# Altium schematic symbol library EG4S20BG256.SCHLIB: 55 symbols
Pins are listed as number, name and electrical type; pins without a type are passive.

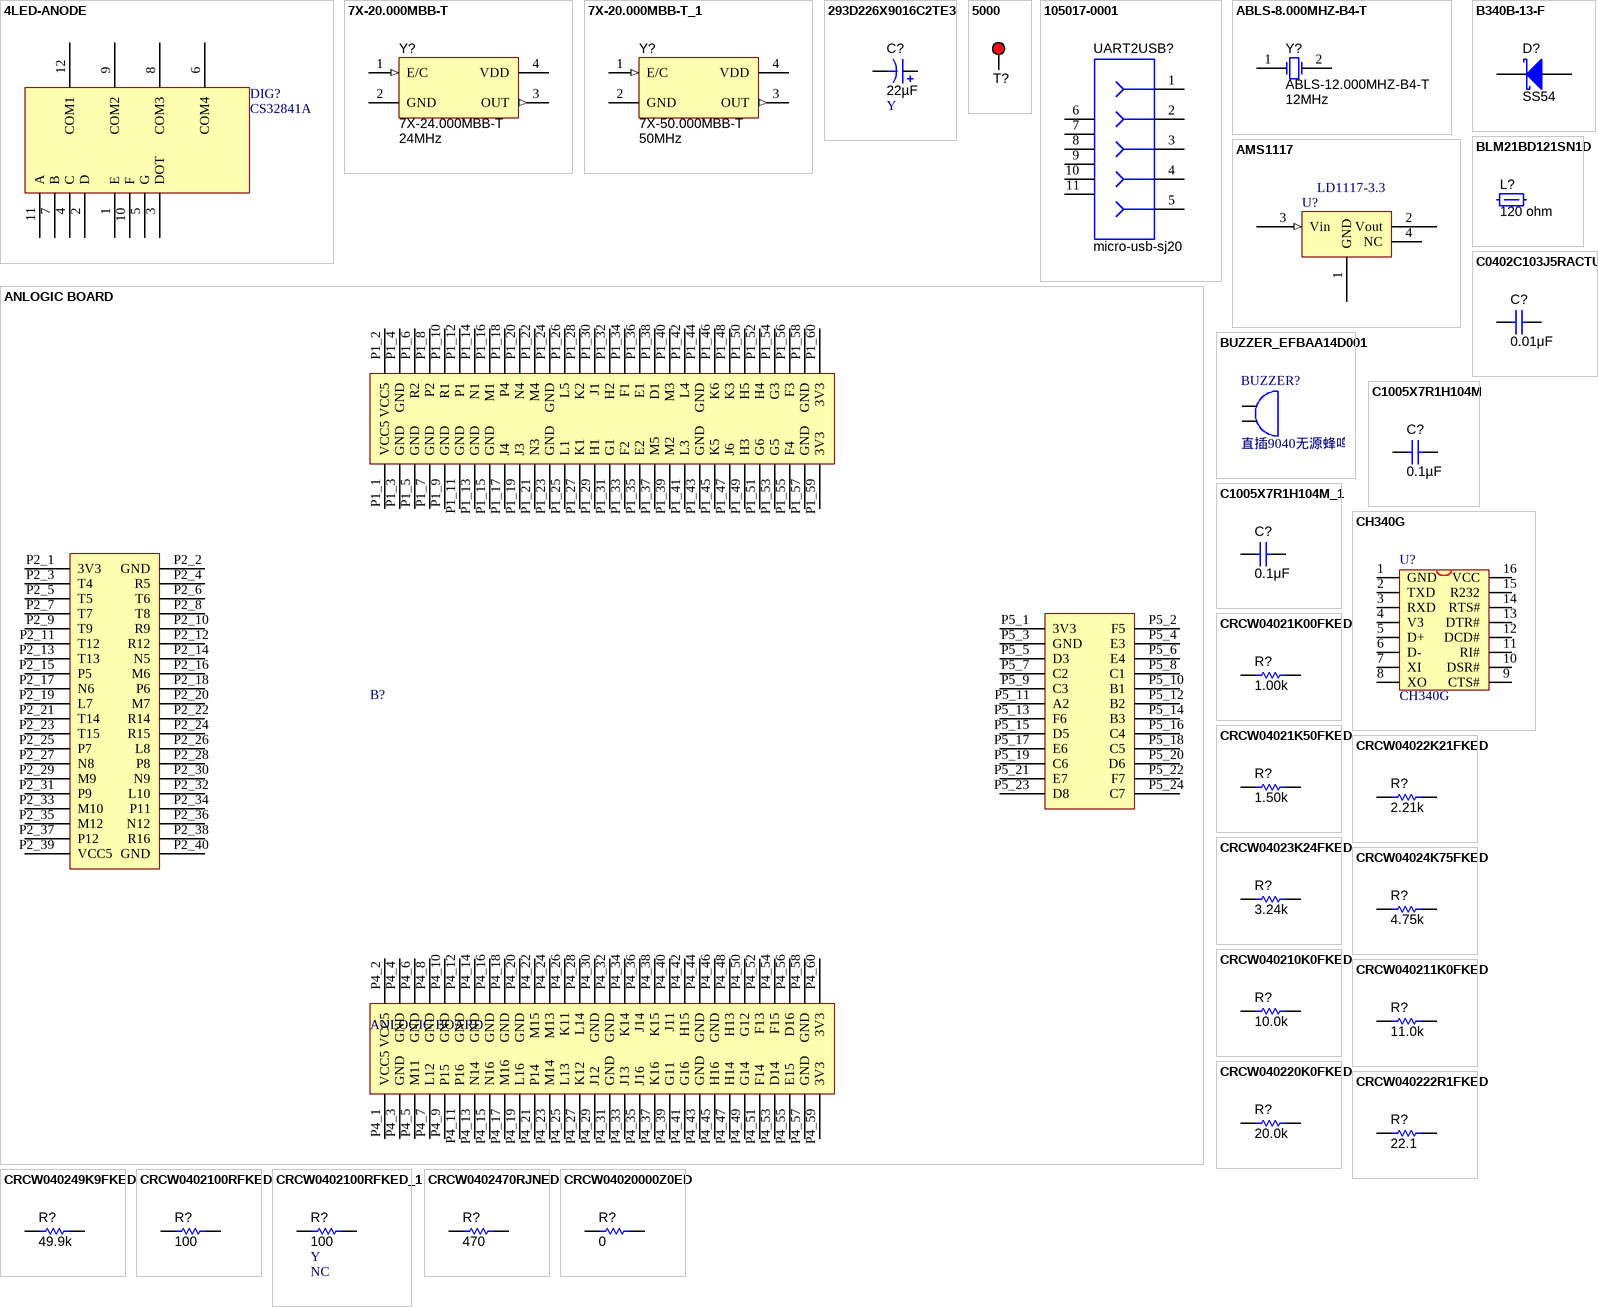
[diagram p0: symbols 4LED-ANODE to CRCW04020000Z0ED]

## 4LED-ANODE
designator DIG?, comment CS32841A
4位共阴数码管，红色
footprint DIP12-500
footprint CS2845AUR (4位数码管)
pins: 1 E, 2 D, 3 DOT, 4 C, 5 G, 6 COM4, 7 B, 8 COM3, 9 COM2, 10 F, 11 A, 12 COM1

## 7X-20.000MBB-T
designator Y?, comment 7X-24.000MBB-T  Frequency: 24MHz
Crystal, 有源晶振，Sealed Locked 24MHz, 15pF, SMD; Manufacturer: TXC Corporation; SymbolCreator: a0799628; CompType: Oscillator; U/M: EA; TaMin_C: -40; TaMax_C: 85; Frequency Stability: ?ppm; SymbolVersion: 2013-06-14; PartNumber: 7X-24.000MBB-T; PackageReference: 3.2x1x2.5 mm; MountType: SMT; RoHS: Y; ComponentLink1Description: Datasheet Link; ComponentLink1URL: http://www.txccrystal.com/images/pdf/7x.pdf; Publisher: Texas Instruments; LatestRevisionDate: 2013-06-18; LatestRevisionNote: Changed publisher; Supplier 1: Digi-Key; Supplier Part Number 1: 887-1217-1-ND; Supplier 2: Mouser; Supplier Part Number 2: 717-7X-20.000MBB-T; Supplier 3: Farnell; Supplier Part Number 3: 1842164
footprint XTAL_7050
footprint XTAL_NX3225SA (NDK NX3225SA recommended land pattern)
pins: 1 E/C (in), 2 GND (power), 3 OUT (out), 4 VDD (power)

## 7X-20.000MBB-T_1
designator Y?, comment 7X-50.000MBB-T  Frequency: 50MHz
Crystal, 有源晶振，Sealed Locked 50MHz, 15pF, SMD; Manufacturer: TXC Corporation; SymbolCreator: a0799628; CompType: Oscillator; U/M: EA; TaMin_C: -40; TaMax_C: 85; Frequency Stability: ?ppm; SymbolVersion: 2013-06-14; PartNumber: 7X-50.000MBB-T; PackageReference: 3.2x1x2.5 mm; MountType: SMT; RoHS: Y; ComponentLink1Description: Datasheet Link; ComponentLink1URL: http://www.txccrystal.com/images/pdf/7x.pdf; Publisher: Texas Instruments; LatestRevisionDate: 2013-06-18; LatestRevisionNote: Changed publisher; Supplier 1: Digi-Key; Supplier Part Number 1: 887-1217-1-ND; Supplier 2: Mouser; Supplier Part Number 2: 717-7X-20.000MBB-T; Supplier 3: Farnell; Supplier Part Number 3: 1842164
footprint XTAL_7050
footprint XTAL_NX3225SA (NDK NX3225SA recommended land pattern)
pins: 1 E/C (in), 2 GND (power), 3 OUT (out), 4 VDD (power)

## 293D226X9016C2TE3
designator C?, comment ValueDisplayed: 22µF  (hidden comment: Y)
CAP, TA, 22 µF, 16 V, +/- 10%, 1.8 ohm, SMD; PartNumber: 293D226X9016C2TE3; Manufacturer: Vishay-Sprague; CompType: Capacitor; Value: 22uF; U/M: EA; Cap_F: 0.000022; Tolerance_%: 10; Value1: 1.8 ohm; VDC_V: 16; Value2: 16V; ESR_ohm: 1.8; IRMS_A: 0.28; TaMin_C: -55; TaMax_C: 125; Cap_Case: C; Polarized: Y; SymbolVersion: 2008-07-09; PackageReference: 6032-28; RoHS: Y; MountType: SMT; Technology: TA; Series: 293D; Publisher: Texas Instruments; LatestRevisionDate: 2015-03-19; LatestRevisionNote: Updated supplier links; ComponentLink1Description: Datasheet link; ComponentLink1URL: http://www.vishay.com/docs/40002/293d.pdf; Supplier 1: Digi-Key; Supplier Part Number 1: 718-1066-1-ND; Supplier 2: Mouser; Supplier Part Number 2: 74-293D226X9016C2TE3; Supplier 3: Farnell; Supplier Part Number 3: 1754187; IGNORE: Y
signal-integrity model Cap
simulation model Cap
footprint 6032-28
pins: 1 +, 2 -

## 5000
designator T?  (value not drawn)
Test Point, TH, Miniature, Red; Manufacturer: Keystone; CompType: Test Point Loop; U/M: EA; SymbolVersion: 2008-04-04; PartNumber: 5000; Value: Red; RoHS: Y; PackageReference: Keystone5000; MountType: TH; ComponentLink1Description: Datasheet Link; ComponentLink1URL: http://www.keyelco.com/pdfs/M55p51.pdf; Publisher: Texas Instruments; LatestRevisionDate: 2012-12-26; LatestRevisionNote: Added parts, moved some to Hardware.IntLib; Supplier 1: Digi-Key; Supplier Part Number 1: 5000K-ND
footprint TP
pins: 1

## 105017-0001
designator UART2USB?, comment micro-usb-sj20
Receptacle, Micro-USB-B, Right Angle, SMD; Manufacturer: Molex; SymbolCreator: a0412235; CompType: Connector; U/M: EA; SymbolVersion: 2012-12-19; PartNumber: micro-usb-sj20; RoHS: Y; PackageReference: Micro USB receptacle; MountType: SMT; ComponentLink1Description: Datasheet Link; ComponentLink1URL: http://www.molex.com/pdm_docs/sd/1050170001_sd.pdf; Publisher: Texas Instruments; LatestRevisionDate: 2012-12-26; LatestRevisionNote: Added parts, moved some to Hardware.IntLib; Supplier 1: Digi-Key; Supplier Part Number 1: WM1399CT-ND; Supplier 2: Mouser; Supplier Part Number 2: 538-105017-0001; Supplier 3: Farnell; Supplier Part Number 3: 1847433
footprint YQMICRO-USB-SJ20 (MICRO-USB-SJ20)
pins: 1, 2, 3, 4, 5, 6, 7, 8, 9, 10, 11

## ABLS-8.000MHZ-B4-T
designator Y?, comment ABLS-12.000MHZ-B4-T  Frequency: 12MHz
Crystal, 12MHz, 18pF, SMD,无源; Manufacturer: Abracon Corportation; SymbolCreator: a0412235; U/M: EA; TaMin_C: 0; TaMax_C: 70; Frequency Stability: ±50ppm; SymbolVersion: 2008-07-09; PartNumber: ABLS-12.000MHZ-B4-T; CompType: Crystal; PackageReference: Crystal, 11.4x4.3x3.8mm; MountType: SMT; RoHS: Y; ComponentLink1Description: Datasheet Link; ComponentLink1URL: http://www.abracon.com/Resonators/abls.pdf; Publisher: Texas Instruments; LatestRevisionDate: 2015-05-05; Supplier 1: Digi-Key; Supplier Part Number 1: 535-10212-1-ND; Supplier 2: Mouser; Supplier Part Number 2: 815-ABLS-8.0M-T
footprint YQ_OSC5032
pins: 1 OSC1, 2 OSC2

## AMS1117
designator U?, comment LD1117-3.3
LDO电源
footprint SOT223-L
pins: 1 GND (power), 2 Vout (power), 3 Vin (in), 4 NC

## ANLOGIC BOARD
designator B?
LatestRevisionDate: 17-Jul-2002; LatestRevisionNote: Re-released for DXP Platform.; Publisher: Altium Limited
footprint ANLOGIC TOP BOARD
footprint ANLOGIC BOTTOM BOARD
pins: P1_1 VCC5, P1_2 VCC5, P1_3 GND, P1_4 GND, P1_5 GND, P1_6 R2, P1_7 GND, P1_8 P2, P1_9 GND, P1_10 R1, P1_11 GND, P1_12 P1, P1_13 GND, P1_14 N1, P1_15 GND, P1_16 M1, P1_17 J4, P1_18 P4, P1_19 J3, P1_20 N4, P1_21 N3, P1_22 M4, P1_23 GND, P1_24 GND, P1_25 L1, P1_26 L5, P1_27 K1, P1_28 K2, P1_29 H1, P1_30 J1, P1_31 G1, P1_32 H2, P1_33 F2, P1_34 F1, P1_35 E2, P1_36 E1, P1_37 M5, P1_38 D1, P1_39 M2, P1_40 M3, P1_41 L3, P1_42 L4, P1_43 GND, P1_44 GND, P1_45 K5, P1_46 K6, P1_47 J6, P1_48 K3, P1_49 H3, P1_50 H5, P1_51 G6, P1_52 H4, P1_53 G5, P1_54 G3, P1_55 F4, P1_56 F3, P1_57 GND, P1_58 GND, P1_59 3V3, P1_60 3V3, P2_1 3V3, P2_2 GND, P2_3 T4, P2_4 R5, P2_5 T5, P2_6 T6, P2_7 T7, P2_8 T8, P2_9 T9, P2_10 R9, P2_11 T12, P2_12 R12, P2_13 T13, P2_14 N5, P2_15 P5, P2_16 M6, P2_17 N6, P2_18 P6, P2_19 L7, P2_20 M7, P2_21 T14, P2_22 R14, P2_23 T15, P2_24 R15, P2_25 P7, P2_26 L8, P2_27 N8, P2_28 P8, P2_29 M9, P2_30 N9, P2_31 P9, P2_32 L10, P2_33 M10, P2_34 P11, P2_35 M12, P2_36 N12, P2_37 P12, P2_38 R16, P2_39 VCC5, P2_40 GND, P4_1 VCC5, P4_2 VCC5, P4_3 GND, P4_4 GND, P4_5 M11, P4_6 GND, P4_7 L12, P4_8 GND, P4_9 P15, P4_10 GND, P4_11 P16, P4_12 GND, P4_13 N14, P4_14 GND, P4_15 N16, P4_16 GND, P4_17 M16, P4_18 GND, P4_19 L16, P4_20 GND, P4_21 P14, P4_22 M15, P4_23 M14, P4_24 M13, P4_25 L13, P4_26 K11, P4_27 K12, P4_28 L14, P4_29 J12, P4_30 GND, P4_31 GND, P4_32 GND, P4_33 J13, P4_34 K14, P4_35 J16, P4_36 J14, P4_37 K16, P4_38 K15, P4_39 G11, P4_40 J11, P4_41 G16, P4_42 H15, P4_43 GND, P4_44 GND, P4_45 H16, P4_46 GND, P4_47 H14, P4_48 H13, P4_49 G14, P4_50 G12, P4_51 F14, P4_52 F13, P4_53 D14, P4_54 F15, P4_55 E15, P4_56 D16, P4_57 GND, P4_58 GND, P4_59 3V3, P4_60 3V3, P5_1 3V3, P5_2 F5, P5_3 GND, P5_4 E3, P5_5 D3, P5_6 E4, P5_7 C2, P5_8 C1, P5_9 C3, P5_10 B1, P5_11 A2, P5_12 B2, P5_13 F6, P5_14 B3, P5_15 D5, P5_16 C4, P5_17 E6, P5_18 C5, P5_19 C6, P5_20 D6, P5_21 E7, P5_22 F7, P5_23 D8, P5_24 C7

## B340B-13-F
designator D?, comment SS54
Diode, Schottky, 40 V, 3A, SMB; Manufacturer: Diodes Inc.; U/M: EA; Vf_V: 0.5; Value: 40V; Value2: 0.5V; Io_A: 3; Vr_V: 40; TJmax_C: 125; RJC_CperW: 25; CompType: Diode; SymbolVersion: 2008-12-08; PartNumber: SS54; PackageReference: SMB; Value1: 3A; MountType: SMT; Type: Schottky; RoHS: Y; Published: 2008-06-26; Publisher: Texas Instruments; LatestRevisionDate: 2015-04-30; ComponentLink1Description: Datasheet link; ComponentLink1URL: http://www.diodes.com/datasheets/ds30924.pdf; Supplier 1: Digi-Key; Supplier Part Number 1: B340B-FDICT-ND; Supplier 2: Mouser; Supplier Part Number 2: 621-B340B-F; Supplier 3: Farnell; Supplier Part Number 3: 1843677
signal-integrity model Diode
simulation model DI_B340B
footprint SMB
pins: 1 K, 2 A

## BLM21BD121SN1D
designator L?, comment value 120 ohm  (hidden comment: GZ2012V121TF)
Ferrite Bead, 120 ohm @ 100 MHz, 0.2 A, 0805; Manufacturer: MuRata; Imax_A: 0.2; DCR_ohm: 0.25; Value1: 0.25 ohm; Value2: 0.2A; ZTyp@100MHz_Ohm: 120; CompType: Ferrite Bead; SymbolVersion: 2009-06-02; PartNumber: GZ2012V121TF; MountType: SMT; PackageReference: 0805; Published: 2014-04-30; Publisher: Texas Instruments; LatestRevisionDate: 2015-05-01; ComponentLink1Description: Datasheet link; ComponentLink1URL: http://search.murata.co.jp/Ceramy/image/img/PDF/ENG/L0110S0100BLM21B.pdf; RoHS: Y; Supplier 1: Digi-Key; Supplier Part Number 1: 490-1044-1-ND; Supplier 2: Mouser; Supplier Part Number 2: 81-BLM21BD121SN1D; Supplier 3: Farnell; Supplier Part Number 3: 1515637
footprint 0805_HV
footprint 0805
footprint 0805M
footprint 0805L
pins: 1, 2

## BUZZER_EFBAA14D001
designator BUZZER?, comment 直插9040无源蜂鸣器
Buzzer, 74 dB min, 25V p-p, 8500pF @ 1kHz，直插9040无源蜂鸣器; Manufacturer: Panasonic; Area: 264,208; Value: {Value}; ComponentHeight: 0.276 inch; PackageReference: 0.550 DIA.; SymbolVersion: 07/31/2009 12:17:27; PartNumber: 直插9040无源蜂鸣器; ComponentLink1Description: AEO Datasheet Link
footprint BUZZER_9*9_4MM
pins: 1, 2

## C0402C103J5RACTU
designator C?  ValueDisplayed: 0.01μF  (hidden comment: C0402C103J5RACTU)
CAP, CERM, 0.01 μF, 50 V, +/- 5%, X7R, 0402; Manufacturer: Kemet; Polarized: N; CompType: Capacitor; Value: 0.01uF; U/M: EA; Cap_F: 0.00000001; Tolerance_%: 5; Value1: Unknown; VDC_V: 50; Value2: 50V; TaMin_C: -55; TaMax_C: 125; Cap_Case: 0402; SymbolVersion: 2008-07-09; PartNumber: C0402C103J5RACTU; PackageReference: 0402; RoHS: Y; MountType: SMT; Technology: Ceramic; TempCo: X7R; Published: 2008-06-19; Publisher: Texas Instruments; LatestRevisionDate: 2015-05-02; ComponentLink1Description: Datasheet link; ComponentLink1URL: http://www.kemet.com/Lists/ProductCatalog/Attachments/53/KEM_C1002_X7R_SMD.pdf; Supplier 1: Digi-Key; Supplier Part Number 1: 399-7758-1-ND; Supplier 2: Mouser; Supplier Part Number 2: 80-C0402C103J5R; Supplier 3: Farnell; Supplier Part Number 3: 2413922
signal-integrity model Cap
simulation model Cap
footprint 0402
footprint 0402M
footprint 0402L
footprint 0402S
pins: 1, 2

## C1005X7R1H104M
designator C?  ValueDisplayed: 0.1µF  (hidden comment: C1005X7R1H104M)
CAP, CERM, 0.1 µF, 50 V, +/- 20%, X7R, 0402; Manufacturer: TDK; Polarized: N; CompType: Capacitor; Value: 0.1uF; U/M: EA; Cap_F: 0.0000001; Tolerance_%: 20; Value1: Unknown; VDC_V: 50; Value2: 50V; TaMin_C: -55; TaMax_C: 125; Cap_Case: 0402; SymbolVersion: 2008-07-09; PartNumber: C1005X7R1H104M; PackageReference: 0402; RoHS: Y; MountType: SMT; Technology: Ceramic; TempCo: X7R; Published: 2008-06-19; Publisher: Texas Instruments; LatestRevisionDate: 2015-05-02; ComponentLink1Description: Datasheet link; Supplier 1: Digi-Key; Supplier Part Number 1: 445-5933-1-ND; Supplier 2: Farnell; Supplier Part Number 2: 1907278
signal-integrity model Cap
simulation model Cap
footprint 0402
footprint 0402M
footprint 0402L
footprint 0402S
pins: 1, 2

## C1005X7R1H104M_1
designator C?, comment ValueDisplayed: 0.1μF  (hidden comment: C1005X7R1H104M)
CAP, CERM, 0.1 μF, 50 V, +/- 20%, X7R, 0402; Manufacturer: TDK; Polarized: N; CompType: Capacitor; Value: 0.1uF; U/M: EA; Cap_F: 0.0000001; Tolerance_%: 20; Value1: Unknown; VDC_V: 50; Value2: 50V; TaMin_C: -55; TaMax_C: 125; Cap_Case: 0402; SymbolVersion: 2008-07-09; PartNumber: C1005X7R1H104M; PackageReference: 0402; RoHS: Y; MountType: SMT; Technology: Ceramic; TempCo: X7R; Published: 2008-06-19; Publisher: Texas Instruments; LatestRevisionDate: 2015-05-02; ComponentLink1Description: Datasheet link; Supplier 1: Digi-Key; Supplier Part Number 1: 445-5933-1-ND; Supplier 2: Farnell; Supplier Part Number 2: 1907278
signal-integrity model Cap
simulation model Cap
footprint 0402
footprint 0402M
footprint 0402L
footprint 0402S
pins: 1, 2

## CH340G
designator U?
USB2UART
footprint SOP16M (Small Outline; 16 Leads; Body Width 3.9 mm; Pitch 1.27 mm)
pins: 1 GND, 2 TXD, 3 RXD, 4 V3, 5 D+, 6 D-, 7 XI, 8 XO, 9 CTS#, 10 DSR#, 11 RI#, 12 DCD#, 13 DTR#, 14 RTS#, 15 R232, 16 VCC

## CRCW04021K00FKED
designator R?  ValueDisplayed: 1.00k  (hidden comment: CRCW04021K00FKED)
RES, 1.00 k, 1%, 0.063 W, 0402; Manufacturer: Vishay-Dale; CompType: Resistor; Value: 1.00k; Res_ohm: 1000; Value_Code: 1k00; Tolerance_%: 1; Power_W: 0.063; Value2: 0.063W; VDC_V: 50; TempCo: 100 ppm/C; EIA_Code: E96; U/M: EA; SymbolVersion: 2009-05-29; PartNumber: CRCW04021K00FKED; PackageReference: 0402; RoHS: Y; Value1: 1%; MountType: SMT; Technology: Thick Film; Published: 2008-06-26; Publisher: Texas Instruments; LatestRevisionDate: 2015-05-01; ComponentLink1Description: Datasheet link; ComponentLink1URL: http://www.vishay.com/docs/20035/dcrcwe3.pdf; Supplier 1: Digi-Key; Supplier Part Number 1: 541-1.00KLCT-ND; Supplier 2: Mouser; Supplier Part Number 2: 71-CRCW0402-1.0K-E3; Supplier 3: Farnell; Supplier Part Number 3: 1469662
signal-integrity model Resistor
simulation model Resistor
footprint 0402
footprint 0402M
footprint 0402L
footprint 0402S
pins: 1, 2

## CRCW04021K50FKED
designator R?  ValueDisplayed: 1.50k  (hidden comment: CRCW04021K50FKED)
RES, 1.50 k, 1%, 0.063 W, 0402; Manufacturer: Vishay-Dale; CompType: Resistor; Value: 1.50k; Res_ohm: 1500; Value_Code: 1k50; Tolerance_%: 1; Power_W: 0.063; Value2: 0.063W; VDC_V: 50; TempCo: 100 ppm/C; EIA_Code: E96; U/M: EA; SymbolVersion: 2009-05-29; PartNumber: CRCW04021K50FKED; PackageReference: 0402; RoHS: Y; Value1: 1%; MountType: SMT; Technology: Thick Film; Published: 2008-06-26; Publisher: Texas Instruments; LatestRevisionDate: 2015-05-01; ComponentLink1Description: Datasheet link; ComponentLink1URL: http://www.vishay.com/docs/20035/dcrcwe3.pdf; Supplier 1: Digi-Key; Supplier Part Number 1: 541-1.50KLCT-ND; Supplier 2: Mouser; Supplier Part Number 2: 71-CRCW0402-1.5K-E3; Supplier 3: Farnell; Supplier Part Number 3: 1653201
signal-integrity model Resistor
simulation model Resistor
footprint 0402
footprint 0402M
footprint 0402L
footprint 0402S
pins: 1, 2

## CRCW04022K21FKED
designator R?  ValueDisplayed: 2.21k  (hidden comment: CRCW04022K21FKED)
RES, 2.21 k, 1%, 0.063 W, 0402; Manufacturer: Vishay-Dale; CompType: Resistor; Value: 2.21k; Res_ohm: 2210; Value_Code: 2k21; Tolerance_%: 1; Power_W: 0.063; Value2: 0.063W; VDC_V: 50; TempCo: 100 ppm/C; EIA_Code: E96; U/M: EA; SymbolVersion: 2009-05-29; PartNumber: CRCW04022K21FKED; PackageReference: 0402; RoHS: Y; Value1: 1%; MountType: SMT; Technology: Thick Film; Published: 2008-06-26; Publisher: Texas Instruments; LatestRevisionDate: 2015-05-01; ComponentLink1Description: Datasheet link; ComponentLink1URL: http://www.vishay.com/docs/20035/dcrcwe3.pdf; Supplier 1: Digi-Key; Supplier Part Number 1: 541-2.21KLCT-ND; Supplier 2: Mouser; Supplier Part Number 2: 71-CRCW0402-2.21K-E3; Supplier 3: Farnell; Supplier Part Number 3: 1469689
signal-integrity model Resistor
simulation model Resistor
footprint 0402
footprint 0402M
footprint 0402L
footprint 0402S
pins: 1, 2

## CRCW04023K24FKED
designator R?  ValueDisplayed: 3.24k  (hidden comment: CRCW04023K24FKED)
RES, 3.24 k, 1%, 0.063 W, 0402; Manufacturer: Vishay-Dale; CompType: Resistor; Value: 3.24k; Res_ohm: 3240; Value_Code: 3k24; Tolerance_%: 1; Power_W: 0.063; Value2: 0.063W; VDC_V: 50; TempCo: 100 ppm/C; EIA_Code: E96; U/M: EA; SymbolVersion: 2009-05-29; PartNumber: CRCW04023K24FKED; PackageReference: 0402; RoHS: Y; Value1: 1%; MountType: SMT; Technology: Thick Film; Published: 2008-06-26; Publisher: Texas Instruments; LatestRevisionDate: 2015-05-01; ComponentLink1Description: Datasheet link; ComponentLink1URL: http://www.vishay.com/docs/20035/dcrcwe3.pdf; Supplier 1: Digi-Key; Supplier Part Number 1: 541-3.24KLCT-ND; Supplier 2: Mouser; Supplier Part Number 2: 71-CRCW0402-3.24K-E3; Supplier 3: Farnell; Supplier Part Number 3: 1151130
signal-integrity model Resistor
simulation model Resistor
footprint 0402
footprint 0402M
footprint 0402L
footprint 0402S
pins: 1, 2

## CRCW04024K75FKED
designator R?  ValueDisplayed: 4.75k  (hidden comment: CRCW04024K75FKED)
RES, 4.75 k, 1%, 0.063 W, 0402; Manufacturer: Vishay-Dale; CompType: Resistor; Value: 4.75k; Res_ohm: 4750; Value_Code: 4k75; Tolerance_%: 1; Power_W: 0.063; Value2: 0.063W; VDC_V: 50; TempCo: 100 ppm/C; EIA_Code: E96; U/M: EA; SymbolVersion: 2009-05-29; PartNumber: CRCW04024K75FKED; PackageReference: 0402; RoHS: Y; Value1: 1%; MountType: SMT; Technology: Thick Film; Published: 2008-06-26; Publisher: Texas Instruments; LatestRevisionDate: 2015-05-01; ComponentLink1Description: Datasheet link; ComponentLink1URL: http://www.vishay.com/docs/20035/dcrcwe3.pdf; Supplier 1: Digi-Key; Supplier Part Number 1: 541-4.75KLCT-ND; Supplier 2: Mouser; Supplier Part Number 2: 71-CRCW0402-4.75K-E3; Supplier 3: Farnell; Supplier Part Number 3: 1469713
signal-integrity model Resistor
simulation model Resistor
footprint 0402
footprint 0402M
footprint 0402L
footprint 0402S
pins: 1, 2

## CRCW040210K0FKED
designator R?  ValueDisplayed: 10.0k  (hidden comment: CRCW040210K0FKED)
RES, 10.0 k, 1%, 0.063 W, 0402; Manufacturer: Vishay-Dale; CompType: Resistor; Value: 10.0k; Res_ohm: 10000; Value_Code: 10k0; Tolerance_%: 1; Power_W: 0.063; Value2: 0.063W; VDC_V: 50; TempCo: 100 ppm/C; EIA_Code: E96; U/M: EA; SymbolVersion: 2009-05-29; PartNumber: CRCW040210K0FKED; PackageReference: 0402; RoHS: Y; Value1: 1%; MountType: SMT; Technology: Thick Film; Published: 2008-06-26; Publisher: Texas Instruments; LatestRevisionDate: 2015-05-01; ComponentLink1Description: Datasheet link; ComponentLink1URL: http://www.vishay.com/docs/20035/dcrcwe3.pdf; Supplier 1: Digi-Key; Supplier Part Number 1: 541-10.0KLCT-ND; Supplier 2: Mouser; Supplier Part Number 2: 71-CRCW0402-10K-E3; Supplier 3: Farnell; Supplier Part Number 3: 1469669
signal-integrity model Resistor
simulation model Resistor
footprint 0402
footprint 0402M
footprint 0402L
footprint 0402S
pins: 1, 2

## CRCW040211K0FKED
designator R?  ValueDisplayed: 11.0k  (hidden comment: CRCW040211K0FKED)
RES, 11.0 k, 1%, 0.063 W, 0402; Manufacturer: Vishay-Dale; CompType: Resistor; Value: 11.0k; Res_ohm: 11000; Value_Code: 11k0; Tolerance_%: 1; Power_W: 0.063; Value2: 0.063W; VDC_V: 50; TempCo: 100 ppm/C; EIA_Code: E96; U/M: EA; SymbolVersion: 2009-05-29; PartNumber: CRCW040211K0FKED; PackageReference: 0402; RoHS: Y; Value1: 1%; MountType: SMT; Technology: Thick Film; Published: 2008-06-26; Publisher: Texas Instruments; LatestRevisionDate: 2015-05-01; ComponentLink1Description: Datasheet link; ComponentLink1URL: http://www.vishay.com/docs/20035/dcrcwe3.pdf; Supplier 1: Digi-Key; Supplier Part Number 1: 541-11.0KLCT-ND; Supplier 2: Mouser; Supplier Part Number 2: 71-CRCW0402-11K-E3; Supplier 3: Farnell; Supplier Part Number 3: 1469673
signal-integrity model Resistor
simulation model Resistor
footprint 0402
footprint 0402M
footprint 0402L
footprint 0402S
pins: 1, 2

## CRCW040220K0FKED
designator R?  ValueDisplayed: 20.0k  (hidden comment: CRCW040220K0FKED)
RES, 20.0 k, 1%, 0.063 W, 0402; Manufacturer: Vishay-Dale; CompType: Resistor; Value: 20.0k; Res_ohm: 20000; Value_Code: 20k0; Tolerance_%: 1; Power_W: 0.063; Value2: 0.063W; VDC_V: 50; TempCo: 100 ppm/C; EIA_Code: E96; U/M: EA; SymbolVersion: 2009-05-29; PartNumber: CRCW040220K0FKED; PackageReference: 0402; RoHS: Y; Value1: 1%; MountType: SMT; Technology: Thick Film; Published: 2008-06-26; Publisher: Texas Instruments; LatestRevisionDate: 2015-05-01; ComponentLink1Description: Datasheet link; ComponentLink1URL: http://www.vishay.com/docs/20035/dcrcwe3.pdf; Supplier 1: Digi-Key; Supplier Part Number 1: 541-20.0KLCT-ND; Supplier 2: Mouser; Supplier Part Number 2: 71-CRCW0402-20K-E3; Supplier 3: Farnell; Supplier Part Number 3: 1469693
signal-integrity model Resistor
simulation model Resistor
footprint 0402
footprint 0402M
footprint 0402L
footprint 0402S
pins: 1, 2

## CRCW040222R1FKED
designator R?  ValueDisplayed: 22.1  (hidden comment: CRCW040222R1FKED)
RES, 22.1, 1%, 0.063 W, 0402; Manufacturer: Vishay-Dale; CompType: Resistor; Value: 22.1; Value_Code: 22R1; Tolerance_%: 1; Power_W: 0.063; Value2: 0.063W; VDC_V: 50; TempCo: 100 ppm/C; EIA_Code: E96; U/M: EA; SymbolVersion: 2009-05-29; PartNumber: CRCW040222R1FKED; PackageReference: 0402; RoHS: Y; Res_ohm: 22.1; Value1: 1%; MountType: SMT; Technology: Thick Film; Published: 2008-06-26; Publisher: Texas Instruments; LatestRevisionDate: 2015-05-01; ComponentLink1Description: Datasheet link; ComponentLink1URL: http://www.vishay.com/docs/20035/dcrcwe3.pdf; Supplier 1: Digi-Key; Supplier Part Number 1: 541-22.1LCT-ND; Supplier 2: Mouser; Supplier Part Number 2: 71-CRCW0402-22.1-E3; Supplier 3: Farnell; Supplier Part Number 3: 1469698
signal-integrity model Resistor
simulation model Resistor
footprint 0402
footprint 0402M
footprint 0402L
footprint 0402S
pins: 1, 2

## CRCW040249K9FKED
designator R?  ValueDisplayed: 49.9k  (hidden comment: CRCW040249K9FKED)
RES, 49.9 k, 1%, 0.063 W, 0402; Manufacturer: Vishay-Dale; CompType: Resistor; Value: 49.9k; Res_ohm: 49900; Value_Code: 49k9; Tolerance_%: 1; Power_W: 0.063; Value2: 0.063W; VDC_V: 50; TempCo: 100 ppm/C; EIA_Code: E96; U/M: EA; SymbolVersion: 2009-05-29; PartNumber: CRCW040249K9FKED; PackageReference: 0402; RoHS: Y; Value1: 1%; MountType: SMT; Technology: Thick Film; Published: 2008-06-26; Publisher: Texas Instruments; LatestRevisionDate: 2015-05-01; ComponentLink1Description: Datasheet link; ComponentLink1URL: http://www.vishay.com/docs/20035/dcrcwe3.pdf; Supplier 1: Digi-Key; Supplier Part Number 1: 541-49.9KLCT-ND; Supplier 2: Mouser; Supplier Part Number 2: 71-CRCW0402-49.9K-E3; Supplier 3: Farnell; Supplier Part Number 3: 1469720
signal-integrity model Resistor
simulation model Resistor
footprint 0402
footprint 0402M
footprint 0402L
footprint 0402S
pins: 1, 2

## CRCW0402100RFKED
designator R?  ValueDisplayed: 100  (hidden comment: CRCW0402100RFKED)
RES, 100, 1%, 0.063 W, 0402; Manufacturer: Vishay-Dale; CompType: Resistor; Value: 100; Value_Code: 100R; Tolerance_%: 1; Power_W: 0.063; Value2: 0.063W; VDC_V: 50; TempCo: 100 ppm/C; EIA_Code: E96; U/M: EA; SymbolVersion: 2009-05-29; PartNumber: CRCW0402100RFKED; PackageReference: 0402; RoHS: Y; Res_ohm: 100; Value1: 1%; MountType: SMT; Technology: Thick Film; Published: 2008-06-26; Publisher: Texas Instruments; LatestRevisionDate: 2015-05-01; ComponentLink1Description: Datasheet link; ComponentLink1URL: http://www.vishay.com/docs/20035/dcrcwe3.pdf; Supplier 1: Digi-Key; Supplier Part Number 1: 541-100LCT-ND; Supplier 2: Mouser; Supplier Part Number 2: 71-CRCW0402-100-E3; Supplier 3: Farnell; Supplier Part Number 3: 1469672
signal-integrity model Resistor
simulation model Resistor
footprint 0402 (0402 from SM-752 data)
footprint 0402M
footprint 0402L
footprint 0402S
pins: 1, 2

## CRCW0402100RFKED_1
designator R?, comment ValueDisplayed: 100  Parameter 1: NC  (hidden comment: Y)
RES, 100, 1%, 0.063 W, 0402; PartNumber: CRCW0402100RFKED; Manufacturer: Vishay-Dale; CompType: Resistor; Value: 100; Value_Code: 100R; Tolerance_%: 1; Power_W: 0.063; Value2: 0.063W; VDC_V: 50; TempCo: 100 ppm/C; EIA_Code: E96; U/M: EA; SymbolVersion: 2009-05-29; PackageReference: 0402; RoHS: Y; Res_ohm: 100; Value1: 1%; MountType: SMT; Technology: Thick Film; Published: 2008-06-26; Publisher: Texas Instruments; LatestRevisionDate: 2015-05-01; ComponentLink1Description: Datasheet link; ComponentLink1URL: http://www.vishay.com/docs/20035/dcrcwe3.pdf; Supplier 1: Digi-Key; Supplier Part Number 1: 541-100LCT-ND; Supplier 2: Mouser; Supplier Part Number 2: 71-CRCW0402-100-E3; Supplier 3: Farnell; Supplier Part Number 3: 1469672; IGNORE: Y
signal-integrity model Resistor
simulation model Resistor
footprint 0402 (0402 from SM-752 data)
footprint 0402M
footprint 0402L
footprint 0402S
pins: 1, 2

## CRCW0402470RJNED
designator R?  ValueDisplayed: 470  (hidden comment: CRCW0402470RJNED)
RES, 470, 5%, 0.063 W, 0402; Manufacturer: Vishay-Dale; CompType: Resistor; Value: 470; Value_Code: 470R; Tolerance_%: 5; Power_W: 0.063; Value2: 0.063W; VDC_V: 50; TempCo: 200 ppm/C; EIA_Code: E24; U/M: EA; SymbolVersion: 2009-05-29; PartNumber: CRCW0402470RJNED; PackageReference: 0402; RoHS: Y; Res_ohm: 470; Value1: 5%; MountType: SMT; Technology: Thick Film; Published: 2008-06-26; Publisher: Texas Instruments; LatestRevisionDate: 2015-05-01; ComponentLink1Description: Datasheet link; ComponentLink1URL: http://www.vishay.com/docs/20035/dcrcwe3.pdf; Supplier 1: Digi-Key; Supplier Part Number 1: 541-470JCT-ND; Supplier 2: Mouser; Supplier Part Number 2: 71-CRCW0402J-470-E3; Supplier 3: Farnell; Supplier Part Number 3: 1537425
signal-integrity model Resistor
simulation model Resistor
footprint 0402
footprint 0402M
footprint 0402L
footprint 0402S
pins: 1, 2

## CRCW04020000Z0ED
designator R?  ValueDisplayed: 0  (hidden comment: CRCW04020000Z0ED)
RES, 0, 5%, 0.063 W, 0402; Manufacturer: Vishay-Dale; CompType: Resistor; Value: 0; Value_Code: 0000; Tolerance_%: 5; Power_W: 0.063; Value2: 0.063W; VDC_V: 50; TempCo: 200 ppm/C; EIA_Code: E24; U/M: EA; SymbolVersion: 2009-05-29; PartNumber: CRCW04020000Z0ED; PackageReference: 0402; RoHS: Y; Res_ohm: 0; Value1: 5%; MountType: SMT; Technology: Thick Film; Published: 2008-06-26; Publisher: Texas Instruments; LatestRevisionDate: 2015-05-01; ComponentLink1Description: Datasheet link; ComponentLink1URL: http://www.vishay.com/docs/20035/dcrcwe3.pdf; Supplier 1: Digi-Key; Supplier Part Number 1: 541-0.0JCT-ND; Supplier 2: Mouser; Supplier Part Number 2: 71-CRCW0402-0-E3; Supplier 3: Farnell; Supplier Part Number 3: 1469661
signal-integrity model Resistor
simulation model Resistor
footprint 0402
footprint 0402M
footprint 0402L
footprint 0402S
pins: 1, 2

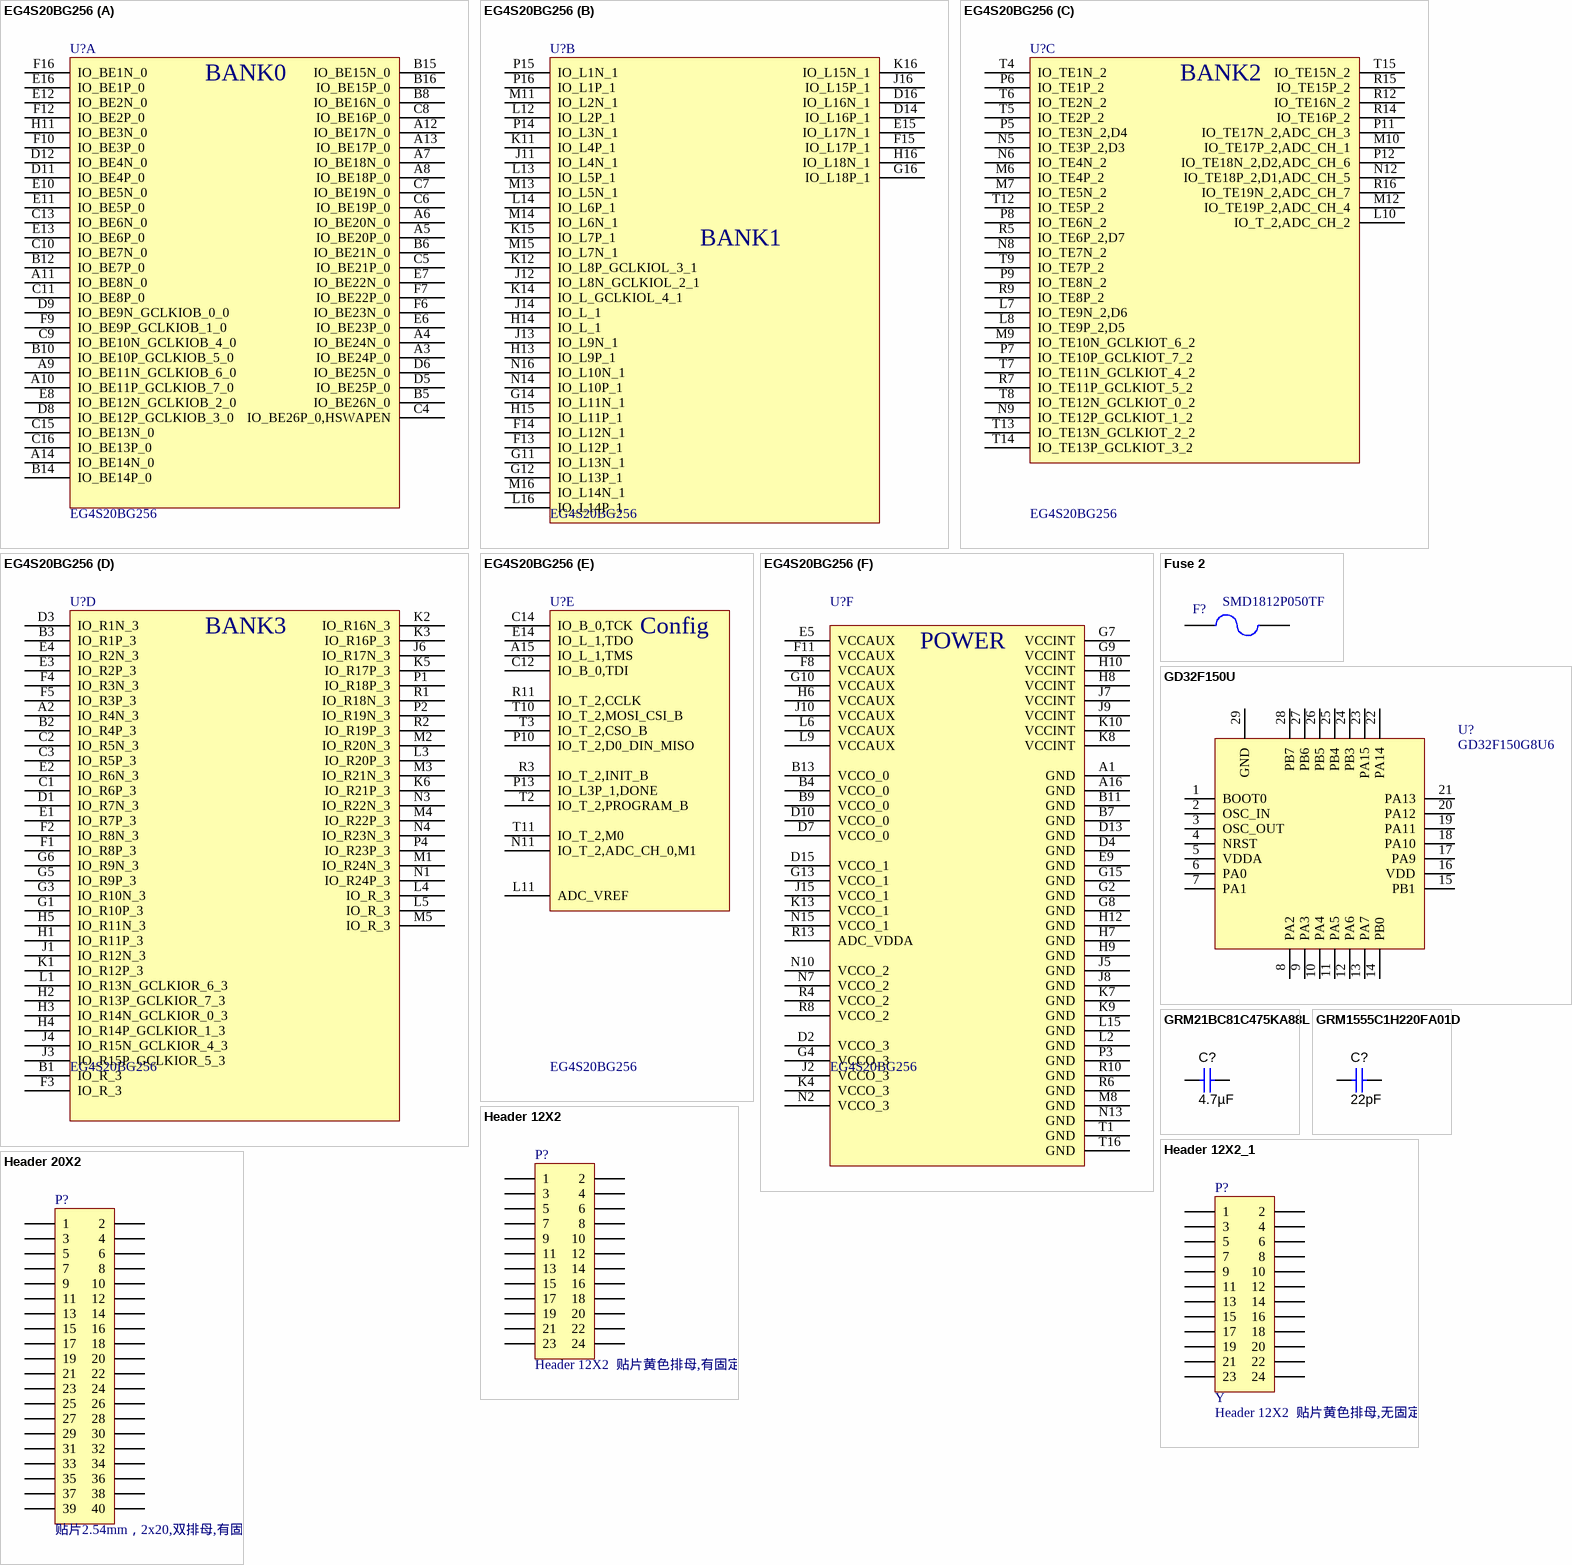
[diagram p1: symbols EG4S20BG256 to Header 20X2]

## EG4S20BG256
designator U?
footprint FBGA256 (Footprint not found)
part A pins: A3 IO_BE24P_0, A4 IO_BE24N_0, A5 IO_BE20P_0, A6 IO_BE20N_0, A7 IO_BE18N_0, A8 IO_BE18P_0, A9 IO_BE11N_GCLKIOB_6_0, A10 IO_BE11P_GCLKIOB_7_0, A11 IO_BE8N_0, A12 IO_BE17N_0, A13 IO_BE17P_0, A14 IO_BE14N_0, B5 IO_BE26N_0, B6 IO_BE21N_0, B8 IO_BE16N_0, B10 IO_BE10P_GCLKIOB_5_0, B12 IO_BE7P_0, B14 IO_BE14P_0, B15 IO_BE15N_0, B16 IO_BE15P_0, C4 IO_BE26P_0,HSWAPEN, C5 IO_BE21P_0, C6 IO_BE19P_0, C7 IO_BE19N_0, C8 IO_BE16P_0, C9 IO_BE10N_GCLKIOB_4_0, C10 IO_BE7N_0, C11 IO_BE8P_0, C13 IO_BE6N_0, C15 IO_BE13N_0, C16 IO_BE13P_0, D5 IO_BE25P_0, D6 IO_BE25N_0, D8 IO_BE12P_GCLKIOB_3_0, D9 IO_BE9N_GCLKIOB_0_0, D11 IO_BE4P_0, D12 IO_BE4N_0, E6 IO_BE23P_0, E7 IO_BE22N_0, E8 IO_BE12N_GCLKIOB_2_0, E10 IO_BE5N_0, E11 IO_BE5P_0, E12 IO_BE2N_0, E13 IO_BE6P_0, E16 IO_BE1P_0, F6 IO_BE23N_0, F7 IO_BE22P_0, F9 IO_BE9P_GCLKIOB_1_0, F10 IO_BE3P_0, F12 IO_BE2P_0, F16 IO_BE1N_0, H11 IO_BE3N_0
part B pins: D14 IO_L16P_1, D16 IO_L16N_1, E15 IO_L17N_1, F13 IO_L12P_1, F14 IO_L12N_1, F15 IO_L17P_1, G11 IO_L13N_1, G12 IO_L13P_1, G14 IO_L11N_1, G16 IO_L18P_1, H13 IO_L9P_1, H14 IO_L_1, H15 IO_L11P_1, H16 IO_L18N_1, J11 IO_L4N_1, J12 IO_L8N_GCLKIOL_2_1, J13 IO_L9N_1, J14 IO_L_1, J16 IO_L15P_1, K11 IO_L4P_1, K12 IO_L8P_GCLKIOL_3_1, K14 IO_L_GCLKIOL_4_1, K15 IO_L7P_1, K16 IO_L15N_1, L12 IO_L2P_1, L13 IO_L5P_1, L14 IO_L6P_1, L16 IO_L14P_1, M11 IO_L2N_1, M13 IO_L5N_1, M14 IO_L6N_1, M15 IO_L7N_1, M16 IO_L14N_1, N14 IO_L10P_1, N16 IO_L10N_1, P14 IO_L3N_1, P15 IO_L1N_1, P16 IO_L1P_1
part C pins: L7 IO_TE9N_2,D6, L8 IO_TE9P_2,D5, L10 IO_T_2,ADC_CH_2, M6 IO_TE4P_2, M7 IO_TE5N_2, M9 IO_TE10N_GCLKIOT_6_2, M10 IO_TE17P_2,ADC_CH_1, M12 IO_TE19P_2,ADC_CH_4, N5 IO_TE3P_2,D3, N6 IO_TE4N_2, N8 IO_TE7N_2, N9 IO_TE12P_GCLKIOT_1_2, N12 IO_TE18P_2,D1,ADC_CH_5, P5 IO_TE3N_2,D4, P6 IO_TE1P_2, P7 IO_TE10P_GCLKIOT_7_2, P8 IO_TE6N_2, P9 IO_TE8N_2, P11 IO_TE17N_2,ADC_CH_3, P12 IO_TE18N_2,D2,ADC_CH_6, R5 IO_TE6P_2,D7, R7 IO_TE11P_GCLKIOT_5_2, R9 IO_TE8P_2, R12 IO_TE16N_2, R14 IO_TE16P_2, R15 IO_TE15P_2, R16 IO_TE19N_2,ADC_CH_7, T4 IO_TE1N_2, T5 IO_TE2P_2, T6 IO_TE2N_2, T7 IO_TE11N_GCLKIOT_4_2, T8 IO_TE12N_GCLKIOT_0_2, T9 IO_TE7P_2, T12 IO_TE5P_2, T13 IO_TE13N_GCLKIOT_2_2, T14 IO_TE13P_GCLKIOT_3_2, T15 IO_TE15N_2
part D pins: A2 IO_R4N_3, B1 IO_R_3, B2 IO_R4P_3, B3 IO_R1P_3, C1 IO_R6P_3, C2 IO_R5N_3, C3 IO_R5P_3, D1 IO_R7N_3, D3 IO_R1N_3, E1 IO_R7P_3, E2 IO_R6N_3, E3 IO_R2P_3, E4 IO_R2N_3, F1 IO_R8P_3, F2 IO_R8N_3, F3 IO_R_3, F4 IO_R3N_3, F5 IO_R3P_3, G1 IO_R10P_3, G3 IO_R10N_3, G5 IO_R9P_3, G6 IO_R9N_3, H1 IO_R11P_3, H2 IO_R13P_GCLKIOR_7_3, H3 IO_R14N_GCLKIOR_0_3, H4 IO_R14P_GCLKIOR_1_3, H5 IO_R11N_3, J1 IO_R12N_3, J3 IO_R15P_GCLKIOR_5_3, J4 IO_R15N_GCLKIOR_4_3, J6 IO_R17N_3, K1 IO_R12P_3, K2 IO_R16N_3, K3 IO_R16P_3, K5 IO_R17P_3, K6 IO_R21P_3, L1 IO_R13N_GCLKIOR_6_3, L3 IO_R20P_3, L4 IO_R_3, L5 IO_R_3, M1 IO_R24N_3, M2 IO_R20N_3, M3 IO_R21N_3, M4 IO_R22P_3, M5 IO_R_3, N1 IO_R24P_3, N3 IO_R22N_3, N4 IO_R23N_3, P1 IO_R18P_3, P2 IO_R19N_3, P4 IO_R23P_3, R1 IO_R18N_3, R2 IO_R19P_3
part E pins: A15 IO_L_1,TMS, C12 IO_B_0,TDI, C14 IO_B_0,TCK, E14 IO_L_1,TDO, L11 ADC_VREF, N11 IO_T_2,ADC_CH_0,M1, P10 IO_T_2,D0_DIN_MISO, P13 IO_L3P_1,DONE, R3 IO_T_2,INIT_B, R11 IO_T_2,CCLK, T2 IO_T_2,PROGRAM_B, T3 IO_T_2,CSO_B, T10 IO_T_2,MOSI_CSI_B, T11 IO_T_2,M0
part F pins: A1 GND, A16 GND, B4 VCCO_0, B7 GND, B9 VCCO_0, B11 GND, B13 VCCO_0, D2 VCCO_3, D4 GND, D7 VCCO_0, D10 VCCO_0, D13 GND, D15 VCCO_1, E5 VCCAUX, E9 GND, F8 VCCAUX, F11 VCCAUX, G2 GND, G4 VCCO_3, G7 VCCINT, G8 GND, G9 VCCINT, G10 VCCAUX, G13 VCCO_1, G15 GND, H6 VCCAUX, H7 GND, H8 VCCINT, H9 GND, H10 VCCINT, H12 GND, J2 VCCO_3, J5 GND, J7 VCCINT, J8 GND, J9 VCCINT, J10 VCCAUX, J15 VCCO_1, K4 VCCO_3, K7 GND, K8 VCCINT, K9 GND, K10 VCCINT, K13 VCCO_1, L2 GND, L6 VCCAUX, L9 VCCAUX, L15 GND, M8 GND, N2 VCCO_3, N7 VCCO_2, N10 VCCO_2, N13 GND, N15 VCCO_1, P3 GND, R4 VCCO_2, R6 GND, R8 VCCO_2, R10 GND, R13 ADC_VDDA, T1 GND, T16 GND
part A text: BANK0
part B text: BANK1
part C text: BANK2
part D text: BANK3
part E text: Config
part F text: POWER

## Fuse 2
designator F?, comment SMD1812P050TF
0.5A自恢复贴片保险丝; Published: 8-Jun-2000; LatestRevisionDate: 17-Jul-2002; LatestRevisionNote: Re-released for DXP Platform.; PackageReference: PIN-W2/E2.8; Publisher: Altium Limited; PackageDescription: Thru-Hole; 2 Leads
footprint 1812 (Chip Capacitor, Body 4.5x3.2mm, IPC High Density)
pins: 1, 2

## GD32F150U
designator U?, comment GD32F150G8U6
GD32F150U; ComponentLink1Description: Manufacturer URL; ComponentLink1URL: http://www.ti.com/; ComponentLink2Description: Datasheet; ComponentLink2URL: http://www.ti.com/general/docs/lit/getliterature.tsp?genericPartNumber=DAC904&fileType=pdf; ComponentLink3Description: Package Specification; ComponentLink3URL: http://www.ti.com/litv/pdf/mpds364
footprint WQFN-28_L4.0-W4.0-P0.40-BL-EP (Footprint not found)
pins: 1 BOOT0, 2 OSC_IN, 3 OSC_OUT, 4 NRST, 5 VDDA, 6 PA0, 7 PA1, 8 PA2, 9 PA3, 10 PA4, 11 PA5, 12 PA6, 13 PA7, 14 PB0, 15 PB1, 16 VDD, 17 PA9, 18 PA10, 19 PA11, 20 PA12, 21 PA13, 22 PA14, 23 PA15, 24 PB3, 25 PB4, 26 PB5, 27 PB6, 28 PB7, 29 GND

## GRM21BC81C475KA88L
designator C?  ValueDisplayed: 4.7µF  (hidden comment: GRM21BC81C475KA88L)
CAP, CERM, 4.7 µF, 16 V, +/- 10%, X6S, 0805; Manufacturer: MuRata; Polarized: N; CompType: Capacitor; Value: 4.7uF; U/M: EA; Cap_F: 0.0000047; Tolerance_%: 10; Value1: Unknown; VDC_V: 16; Value2: 16V; TaMin_C: -55; TaMax_C: 105; Cap_Case: 0805; SymbolVersion: 2008-07-09; PartNumber: GRM21BC81C475KA88L; PackageReference: 0805; RoHS: Y; MountType: SMT; Technology: Ceramic; TempCo: X6S; Published: 2008-06-19; Publisher: Texas Instruments; LatestRevisionDate: 2015-05-02; ComponentLink1Description: Datasheet link; ComponentLink1URL: http://search.murata.co.jp/Ceramy/PnsearchViewAction.do?HnOFG=ON&HnNFG=ON&SEL_CNT=50&sLang=en&sKey=GRM21BC81C475KA88L&x=9&y=9&search=startwith; Supplier 1: Digi-Key; Supplier Part Number 1: GRM21BC81C475KA88L-ND; Supplier 2: Mouser; Supplier Part Number 2: 81-GRM21BC81C475KA8L; Supplier 3: Farnell; Supplier Part Number 3: 1889279
signal-integrity model Cap
simulation model Cap
footprint 0805_HV
footprint 0805
footprint 0805M
footprint 0805L
pins: 1, 2

## GRM1555C1H220FA01D
designator C?  ValueDisplayed: 22pF  (hidden comment: GRM1555C1H220FA01D)
CAP, CERM, 22 pF, 50 V, +/- 1%, C0G/NP0, 0402; Manufacturer: MuRata; Polarized: N; CompType: Capacitor; Value: 22pF; U/M: EA; Cap_F: 0.000000000022; Tolerance_%: 1; Value1: Unknown; VDC_V: 50; Value2: 50V; TaMin_C: -55; TaMax_C: 125; Cap_Case: 0402; SymbolVersion: 2008-07-09; PartNumber: GRM1555C1H220FA01D; PackageReference: 0402; RoHS: Y; MountType: SMT; Technology: Ceramic; TempCo: C0G/NP0; Published: 2008-06-19; Publisher: Texas Instruments; LatestRevisionDate: 2015-05-02; ComponentLink1Description: Datasheet link; ComponentLink1URL: http://search.murata.co.jp/Ceramy/image/img/A01X/partnumbering_e_01.pdf; Supplier 1: Digi-Key; Supplier Part Number 1: 490-8589-1-ND; Supplier 2: Mouser; Supplier Part Number 2: 81-GRM1555C1H220FA1D
signal-integrity model Cap
simulation model Cap
footprint 0402
footprint 0402M
footprint 0402L
footprint 0402S
pins: 1, 2

## Header 12X2
designator P?, comment Header 12X2  贴片黄色排母,有固定柱
Header, 12-Pin, Dual row; LatestRevisionDate: 17-Jul-2002; LatestRevisionNote: Re-released for DXP Platform.; Publisher: Altium Limited
footprint HDR2X12 (Connector; Header; 12x2 Position)
signal-integrity model Connector
footprint YQ2*12-SMT (with location hole)
pins: 1, 2, 3, 4, 5, 6, 7, 8, 9, 10, 11, 12, 13, 14, 15, 16, 17, 18, 19, 20, 21, 22, 23, 24

## Header 12X2_1
designator P?, comment Y  Parameter: Header 12X2  贴片黄色排母,无固定柱
Header, 12-Pin, Dual row; LatestRevisionDate: 17-Jul-2002; LatestRevisionNote: Re-released for DXP Platform.; Publisher: Altium Limited; IGNORE: Y
footprint HDR2X12 (Connector; Header; 12x2 Position)
signal-integrity model Connector
footprint YQ2*12-SMT (with location hole)
pins: 1, 2, 3, 4, 5, 6, 7, 8, 9, 10, 11, 12, 13, 14, 15, 16, 17, 18, 19, 20, 21, 22, 23, 24

## Header 20X2
designator P?, comment 贴片2.54mm，2x20,双排母,有固定柱
贴片2.54mm，2x20,双排孔; LatestRevisionDate: 17-Jul-2002; LatestRevisionNote: Re-released for DXP Platform.; Publisher: Altium Limited
footprint DC3-40P-T-MIMI (Connector; Header; 20x2 Position)
signal-integrity model Connector
pins: 1, 2, 3, 4, 5, 6, 7, 8, 9, 10, 11, 12, 13, 14, 15, 16, 17, 18, 19, 20, 21, 22, 23, 24, 25, 26, 27, 28, 29, 30, 31, 32, 33, 34, 35, 36, 37, 38, 39, 40

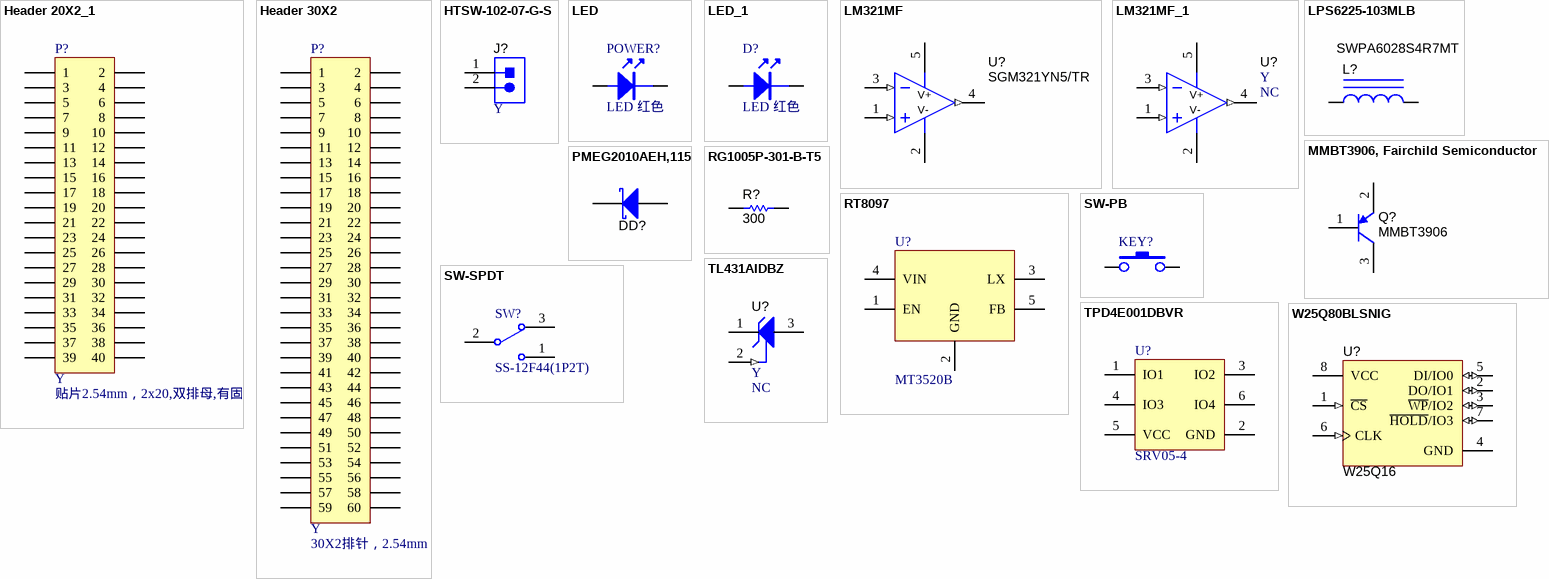
[diagram p2: symbols Header 20X2_1 to W25Q80BLSNIG]

## Header 20X2_1
designator P?, comment Parameter: 贴片2.54mm，2x20,双排母,有固定柱  (hidden comment: Y)
贴片2.54mm，2x20,双排孔; LatestRevisionDate: 17-Jul-2002; LatestRevisionNote: Re-released for DXP Platform.; Publisher: Altium Limited; IGNORE: Y
footprint DC3-40P-T-MIMI (Connector; Header; 20x2 Position)
signal-integrity model Connector
pins: 1, 2, 3, 4, 5, 6, 7, 8, 9, 10, 11, 12, 13, 14, 15, 16, 17, 18, 19, 20, 21, 22, 23, 24, 25, 26, 27, 28, 29, 30, 31, 32, 33, 34, 35, 36, 37, 38, 39, 40

## Header 30X2
designator P?, comment Y  Parameter: 30X2排针，2.54mm
Header, 30-Pin, Dual row30X2排针，2.54mm; LatestRevisionDate: 17-Jul-2002; LatestRevisionNote: Re-released for DXP Platform.; Publisher: Altium Limited; IGNORE: Y
footprint HDR2X30 (Connector; Header; 30x2 Position)
signal-integrity model Connector
pins: 1, 2, 3, 4, 5, 6, 7, 8, 9, 10, 11, 12, 13, 14, 15, 16, 17, 18, 19, 20, 21, 22, 23, 24, 25, 26, 27, 28, 29, 30, 31, 32, 33, 34, 35, 36, 37, 38, 39, 40, 41, 42, 43, 44, 45, 46, 47, 48, 49, 50, 51, 52, 53, 54, 55, 56, 57, 58, 59, 60

## HTSW-102-07-G-S
designator J?, comment Y
Header, 100mil, 2x1, Gold, TH; PartNumber: 1x2直插圆孔，2.54mm; Manufacturer: Samtec; SymbolCreator: a0412235; U/M: EA; SymbolVersion: 2013-10-31; ClassName: Header; PackageReference: Header, 100mil, 2x1, TH; CompType: Header; RoHS: Y; MountType: TH; ComponentLink1Description: Datasheet Link; ComponentLink1URL: http://www.samtec.com/ftppub/pdf/TSW_TH.PDF; Publisher: Texas Instruments; LatestRevisionDate: 2014-11-22; Supplier 1: Digi-Key; Supplier Part Number 1: SAM8736-ND; Parameter 1: *; IGNORE: Y
footprint Samtec_HTSW-102-07-G-S
pins: 1, 2
1 alternate drawing of the same symbol

## LED
designator POWER?, comment LED 红色
LED 发光二极管
footprint LED_0805
footprint LED_LTST-C170
pins: 1 A, 2 K

## LED_1
designator D?, comment LED 红色
LED 发光二极管 0805
footprint LED_LTST-C170
pins: 1 A, 2 K

## LM321MF
designator U?, comment SGM321YN5/TR
Low Power Single Op Amp, DBV0005A; Manufacturer: Texas Instruments; SymbolCreator: a0411595; CompType: OpAmp IC; SymbolVersion: 2015-01-06; PartNumber: SGM321YN5/TR; PackageReference: DBV0005A; MountType: SMT; Publisher: Texas Instruments; LatestRevisionDate: 2015-02-03; Alternate Manufacturer: Texas Instruments; ComponentLink1Description: LM321 Datasheet; ComponentLink1URL: http://www.ti.com/lit/gpn/LM321; ComponentLink2Description: LM321 Web Page; ComponentLink2URL: http://www.ti.com/product/LM321; ComponentLink3Description: SOT Package Web Page; ComponentLink3URL: http://www.ti.com/sc/docs/psheets/type/sot.html
footprint DBV0005A_N
footprint DBV0005A_M
footprint DBV0005A_L
simulation model LM324/NS (SUBCKT)
pins: 1 IN+ (in), 2 V- (power), 3 IN- (in), 4 OUT (out), 5 V+ (power)
1 alternate drawing of the same symbol

## LM321MF_1
designator U?, comment Parameter 1: NC  (hidden comment: Y)
Low Power Single Op Amp, DBV0005A; PartNumber: SGM321YN5/TR; Manufacturer: Texas Instruments; SymbolCreator: a0411595; CompType: OpAmp IC; SymbolVersion: 2015-01-06; PackageReference: DBV0005A; MountType: SMT; Publisher: Texas Instruments; LatestRevisionDate: 2015-02-03; Alternate Manufacturer: Texas Instruments; ComponentLink1Description: LM321 Datasheet; ComponentLink1URL: http://www.ti.com/lit/gpn/LM321; ComponentLink2Description: LM321 Web Page; ComponentLink2URL: http://www.ti.com/product/LM321; ComponentLink3Description: SOT Package Web Page; ComponentLink3URL: http://www.ti.com/sc/docs/psheets/type/sot.html; IGNORE: Y
footprint DBV0005A_N
footprint DBV0005A_M
footprint DBV0005A_L
simulation model LM324/NS (SUBCKT)
pins: 1 IN+ (in), 2 V- (power), 3 IN- (in), 4 OUT (out), 5 V+ (power)
1 alternate drawing of the same symbol

## LPS6225-103MLB
designator L?, comment SWPA6028S4R7MT
Inductor, Shielded Drum Core, Ferrite, 4.7µH, 1.3 A, 0.1 ohm, SMD; Manufacturer: Coilcraft; Value: 10uH; Ind_H: 10.0E-6; Imax_A: 1.3; Irms: 1.3A @ 40C rise; Isat: 2.2A @ 30% inductance drop; DCR_ohm: 0.1; Value1: 0.1 ohm; Value2: 1.3A; SymbolVersion: 2008-07-23; CompType: Inductor; PartNumber: SWPA6028S4R7MT; ValueDisplayed: 4.7µH; Technology: Shielded Drum Core; MountType: SMT; Material: Ferrite; PackageReference: LPS6225; Published: 2008-06-26; Publisher: Texas Instruments; LatestRevisionDate: 2015-04-27; ComponentLink1Description: Datasheet link; ComponentLink1URL: http://www.coilcraft.com/pdfs/lps6225.pdf; RoHS: Y
signal-integrity model Inductor
simulation model Inductor
footprint LPS6225
pins: 1, 2

## MMBT3906, Fairchild Semiconductor
designator Q?, comment MMBT3906
Transistor, PNP, 40 V, 0.2 A, SOT-23; Manufacturer: Fairchild Semiconductor; CompType: BJT; PNP: 1; NPN: 0; Vceo_V: 40; Vcesat1_V: 0.25; Value: 40 V; IcRated_A: 0.2; Value1: 0.2 A; HfeMax: 300; TaMin_C: -55; TaMax_C: 150; U/M: EA; SymbolVersion: 2008-07-31; PartNumber: MMBT3906; PackageReference: SOT-23; RoHS: Y; Value2: 300; Published: 2008-07-31; LatestRevisionDate: 2015-04-27; Publisher: Texas Instruments; ComponentLink1Description: Datasheet link; ComponentLink1URL: http://www.fairchildsemi.com/ds/MM/MMBT3906.pdf; Supplier 1: Digi-Key; Supplier Part Number 1: MMBT3906FSCT-ND; Supplier 2: Farnell; Supplier Part Number 2: 9846832; MountType: SMT
footprint SOT-23
footprint SOT-23M
footprint SOT-23L
simulation model MMBT3906
footprint SOT-23
pins: 1 B, 2 E, 3 C

## PMEG2010AEH,115
designator DD?, comment 1N5819  (value not drawn)
Diode, Schottky, 20 V, 1 A, SOD-123F; Manufacturer: NXP Semiconductor; U/M: EA; Vf_V: 0.43; Value: 20V; Value1: 1A; Value2: 0.43V; Io_A: 1; Vr_V: 20; TJmax_C: 150; IGNORE: N; CompType: Diode; SymbolVersion: 2008-12-08; PartNumber: 1N5819; PackageReference: SOD-123F; MountType: SMT; Type: Schottky; RoHS: Y; Published: 2008-06-26; Publisher: Texas Instruments; LatestRevisionDate: 2015-04-30; ComponentLink1Description: Datasheet link; ComponentLink1URL: http://www.nxp.com/documents/data_sheet/PMEG2010AEH_PMEG2010AET.pdf; Supplier 1: Digi-Key; Supplier Part Number 1: 568-4112-1-ND; Supplier 2: Mouser; Supplier Part Number 2: 771-PMEG2010AEH-T/R; Supplier 3: Farnell; Supplier Part Number 3: 2371105
signal-integrity model Diode
footprint SOD-123F
footprint SOD-123F
pins: 1 K, 2 A

## RG1005P-301-B-T5
designator R?  ValueDisplayed: 300  (hidden comment: RG1005P-301-B-T5)
RES, 300, 0.1%, 0.063 W, 0402; Manufacturer: Susumu Co Ltd; CompType: Resistor; Value: 300; Value_Code: 300R; Tolerance_%: 0.1; Power_W: 0.063; Value2: 0.063W; VDC_V: 50; TempCo: 25 ppm/C; U/M: EA; SymbolVersion: 2009-05-29; PartNumber: RG1005P-301-B-T5; PackageReference: 0402; RoHS: Y; Res_ohm: 300; Value1: 0.1%; MountType: SMT; Technology: Thin Film; Published: 2008-06-26; Publisher: Texas Instruments; LatestRevisionDate: 2015-05-01; ComponentLink1Description: Datasheet link; ComponentLink1URL: http://www.susumu-usa.com/pdf/RG_Data_Sheet.pdf; Supplier 1: Digi-Key; Supplier Part Number 1: RG10P300BCT-ND; Supplier 2: Mouser; Supplier Part Number 2: 754-RG1005P-301-B-T5
signal-integrity model Resistor
simulation model Resistor
footprint 0402
footprint 0402M
footprint 0402L
footprint 0402S
pins: 1, 2

## RT8097
designator U?, comment MT3520B
1MHZ,2A,STEP-DOWM DC/DC; Partnumber: MT3520B
footprint DBV0005A_N (Footprint not found)
pins: 1 EN, 2 GND, 3 LX, 4 VIN, 5 FB

## SW-PB
designator KEY?, comment 贴片按键  (value not drawn)
米黄色圆形按键6*6*3.4
footprint BUTTOM_T_6*6
footprint BUTTOM_T_6*6 *4.3
pins: 1, 2

## SW-SPDT
designator SW?, comment SS-12F44(1P2T)
SPDT Subminiature Toggle Switch, Right Angle Mounting, Vertical Actuation; Published: 24-Mar-1999; LatestRevisionDate: 17-Dec-2003; LatestRevisionNote: Schematic revised, PCB Footprint replaced.; DatasheetVersion: 05-Dec-2000; PackageReference: TL36WW15050; Publisher: Altium Limited; PackageDescription: Switch; 4 Leads; ComponentLink1Description: Manufacturer Link; ComponentLink1URL: http://www.apem.com
footprint SS-12F20
footprint SS-12F44(1P2T)
pins: 1, 2, 3

## TL431AIDBZ
designator U?, comment Parameter 1: NC  (hidden comment: Y)
PRECISION PROGRAMMABLE REFERENCE, DBZ0003A; PartNumber: TL431AIDBZ; Manufacturer: Texas Instruments; SymbolCreator: a0412235; CompType: IC; U/M: EA; SymbolVersion: 2013-02-15; PackageReference: DBZ0003A; MountType: SMT; ComponentLink1Description: Datasheet Link; ComponentLink1URL: http://www.ti.com/lit/ds/symlink/tl431.pdf; RoHS: Y; Publisher: Texas Instruments; LatestRevisionDate: 2015-05-05; Alternate Manufacturer: Texas Instruments; IGNORE: Y
footprint DBZ0003A_N
footprint DBZ0003A_M
footprint DBZ0003A_L
pins: 1 CATHODE, 2 REF (in), 3 ANODE

## TPD4E001DBVR
designator U?, comment SRV05-4
Low-Capacitance + / - 15-kV ESD Protection Array for High-Speed Data Interfaces, 4 Channels, -40 to +85 degC, 6-pin SOT-23 (DBV), Green (RoHS & no Sb/Br); Manufacturer: Texas Instruments; PartNumber: TPD4E001DBVR; Alternate Manufacturer: None; Alternate PartNumber: Equivalent; 1394 / Firewire: TRUE; Breakdown Voltage(Min)(V): 11; IEC 61000-4-2 Air-Gap(+/- kV): 15; IEC 61000-4-2 Contact(+/- kV): 8; IO Capacitance(Typ)(pF): 1.5; SubFamily: ESD Solution; DatasheetVersion: SLLS682G; PackageVersion: revK, Mar-2006; PackageReference: DBV0006A; PackageDescription: 6-Pin Plastic Small-Outline Package, 2.9 x 1.6 mm Body, 0.95 mm Pitch, 2.8 mm Lead Span; Supplier 1: Digi-Key; Supplier Part Number 1: 296-28203-2-ND; Supplier 2: Digi-Key; Supplier Part Number 2: 296-28203-1-ND; Supplier 3: Digi-Key; Supplier Part Number 3: 296-28203-6-ND; Supplier 4: Newark; Supplier Part Number 4: 27T6836; Supplier 5: Mouser; Supplier Part Number 5: 595-TPD4E001DBVR; Eco-Plan: Green (RoHS & no Sb/Br); IO Leakage Current(nA): 1.5; Serial ATA / eSATA: TRUE; USB High Speed: TRUE; MountType: SMT; Code_JEDEC: MO-178-AB*; ComponentLink1Description: Datasheet; ComponentLink1URL: http://www.ti.com/general/docs/lit/getliterature.tsp?genericPartNumber=TPD4E001&fileType=pdf; ComponentLink2Description: URL Link1; ComponentLink2URL: SamplesURL:http://www.ti.com/product/tpd4e001#samples
footprint DBV0006A_N (SOT23, 6-Leads, Body 2.9x1.6mm, Pitch 0.95mm, Lead Span 2.8mm, IPC Medium Density)
footprint DBV0006A_L (SOT23, 6-Leads, Body 2.9x1.6mm, Pitch 0.95mm, Lead Span 2.8mm, IPC High Density)
footprint DBV0006A_M (SOT23, 6-Leads, Body 2.9x1.6mm, Pitch 0.95mm, Lead Span 2.8mm, IPC Low Density)
pins: 1 IO1 "ESD-protected channel", 2 GND (power) "Ground", 3 IO2 "ESD-protected channel", 4 IO3 "ESD-protected channel", 5 VCC (power) "Power-supply input. Bypass VCC to GND with a 0.1-uF ceramic capacitor.", 6 IO4 "ESD-protected channel"

## W25Q80BLSNIG
designator U?, comment W25Q16
2.5V 8M-Bit Serial Flash Memory with Dual and Quad SPI, SOIC-8; Manufacturer: Winbond; SymbolCreator: Altium; SymbolVersion: 2015-04-01; PartNumber: W25Q16; MountType: SMT; ComponentLink1Description: Datasheet Link; ComponentLink1URL: http://www.winbond.com/resource-files/da00-w25q80blf1.pdf; RoHS: Y; PackageReference: SOIC-8; Publisher: Texas Instruments; LatestRevisionDate: 2015-05-05; Supplier 1: Digi-Key; Supplier Part Number 1: W25Q80BLSNIG-ND
footprint SOIC-8
footprint SOIC-8M
footprint SOIC-8L
footprint MICT-MW-8_N (SOIC, 8-Leads, Body 6.2x6.1mm, Pitch 1.27mm, IPC Medium Density)
footprint SOIC-8 (duplicate of SO-8.  SOIC, 8-Leads, Body 5.0x4.0mm (max), Pitch 1.27mm, IPC Medium Density)
pins: 1 ~{CS} (in), 2 DO/IO1 (io), 3 ~{WP}/IO2 (io), 4 GND (power), 5 DI/IO0 (io), 6 CLK (in), 7 ~{HOLD}/IO3 (io), 8 VCC (power)